# Altium integrated library MCP100T-300ITT.IntLib: 2 symbols
Pins are listed as number, name and electrical type; pins without a type are passive.

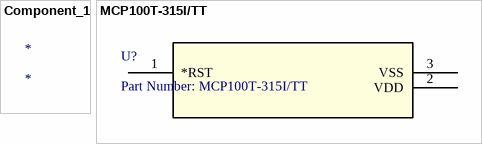
[diagram p0: symbols Component_1 to MCP100T-315I/TT]

## Component_1
designator *

## MCP100T-315I/TT
designator U?, comment Part Number: MCP100T-315I/TT
No Description Available; Vendor: Microchip; Built_By: EMA_UL_Team; Manufacturer_Part_Number: MCP100T-315I/TT; Copyright: Copyright (C) 2018 Accelerated Designs. All rights reserved; RefDes: RefDes; Type: DEV; Value: Value
footprint SOT-23_MC
pins: 1 *RST, 2 VDD, 3 VSS